# Altium footprint library AMP.PcbLib: 6 footprints
Each footprint in its own frame and in the unit in brackets; x right, y up, seen from the top. Pads: shape width x height; smd on the part's side, far side on the other; paste and mask are expansions set on the pad; w line width, h text height; cw(c..) or ccw(c..) is an arc to the next point about the centre after c.
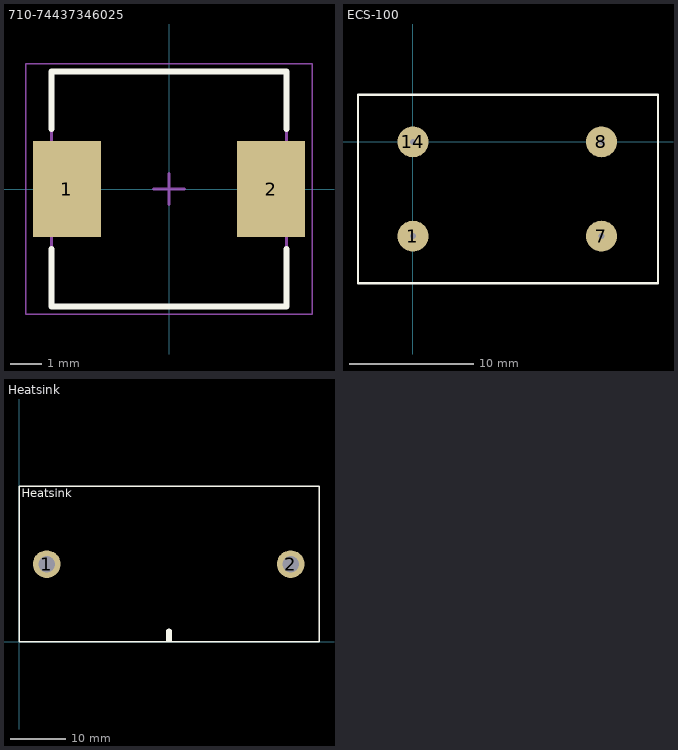
[diagram p0: the footprints below, top view; thin cyan lines are the x and y axes]

## 710-74437346025 [mm]
height 2.8
pads (2):
  rect 2.2x3.1 smd: 1(-3.3,0) 2(3.3,0)
Top Overlay:
  lines w0.2: -3.8,-1.95 -3.8,-3.8 3.8,-3.8 3.8,-1.95 ; -3.8,1.95 -3.8,3.8 3.8,3.8 3.8,1.95
Mechanical 13:
  lines w0.1: -3.8,-3.8 3.8,-3.8 3.8,3.8 -3.8,3.8 -3.8,-3.8
Mechanical 15:
  lines w0.05: -4.625,-4.05 4.625,-4.05 4.625,4.05 -4.625,4.05 -4.625,-4.05
  lines w0.1: -0.5,0 0.5,0 ; 0,-0.5 0,0.5
3D body: height 2.8, standoff 0, extent -3.8,-3.8 3.8,3.8

## clkGenerator [mm]

## ECS-100 [mm]
pads (4):
  round 2.5 hole 0.5: 1(0,-7.62) 7(15.24,-7.62) 8(15.24,0) 14(0,0)
Top Overlay:
  lines w0.2: -4.445,-11.43 19.812,-11.43 19.812,3.81 -4.445,3.81 -4.445,-11.43

## Heatsink [mm]
pads (2):
  round 5 hole 3: 1(5,14) 2(49,14)
Top Overlay:
  lines w0.254: 0,0 0,28.067 54.102,28.067 54.102,0 0,0
  lines w1: 27.051,0.381 27.051,1.905
  text "Heatsink" at 0.508,26.035 h1.52

## PCBComponent_1 [mm]

## SRR1280-100M [mm] "Precision Wire Wound Inductor, 2-Leads, Body 12,50x12,50mm, IPC Medium Density"
height 8